# EAGLE library part POWERSTEP01 (library POWERSTEP01)
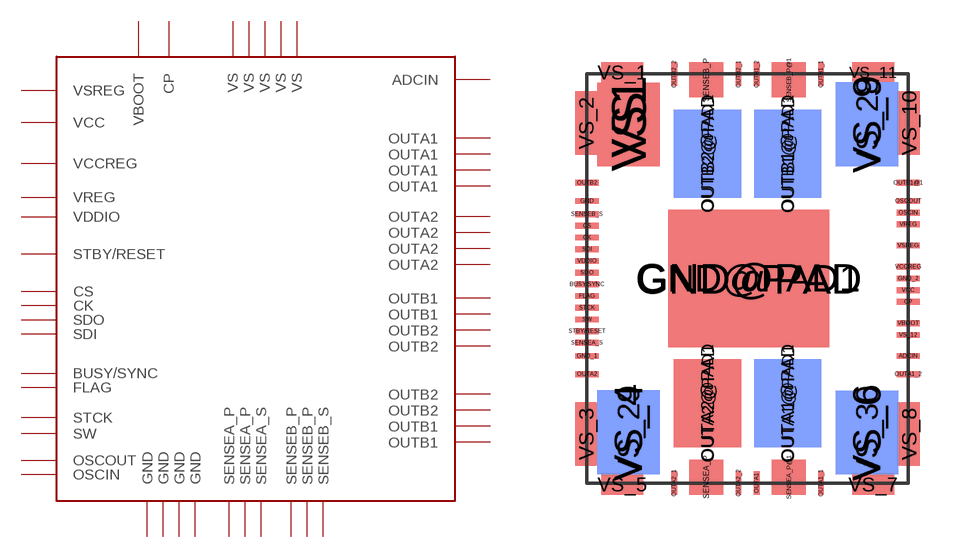
[diagram p0: symbol with the pads of POWERSTEP01; footprint POWERSTEP01]

Designator prefix -

## POWERSTEP01  [POWERSTEP01]
ADCIN  ADCIN
BUSY/SYNC  BUSY/SYNC
CK  CK
CP  CP
CS  CS
FLAG  FLAG
GND  GND
GND@PAD  GND
GND@PAD1  GND
GND_1  GND
GND_2  GND
OSCIN  OSCIN
OSCOUT  OSCOUT
OUTA1  OUTA1
OUTA1@PAD  OUTA1
OUTA1@PAD1  OUTA1
OUTA1_1  OUTA1
OUTA1_2  OUTA1
OUTA2  OUTA2
OUTA2@PAD  OUTA2
OUTA2@PAD1  OUTA2
OUTA2_1  OUTA2
OUTA2_2  OUTA2
OUTB1@1  OUTB1
OUTB1@PAD  OUTB1
OUTB1@PAD1  OUTB1
OUTB1_1  OUTB1
OUTB1_2  OUTB1
OUTB2  OUTB2
OUTB2@PAD  OUTB2
OUTB2@PAD1  OUTB2
OUTB2_1  OUTB2
OUTB2_2  OUTB2
SDI  SDI
SDO  SDO
SENSEA_P  SENSEA_P
SENSEA_P@1  SENSEA_P
SENSEA_S  SENSEA_S
SENSEB_P  SENSEB_P
SENSEB_P@1  SENSEB_P
SENSEB_S  SENSEB_S
STBY/RESET  STBY/RESET
STCK  STCK
SW  SW
VBOOT  VBOOT
VCC  VCC
VCCREG  VCCREG
VDDIO  VDDIO
VREG  VREG
VS  VS
VS1  VS
VS_1  VS
VS_2  VS
VS_3  VS
VS_4  VS
VS_5  VS
VS_6  VS
VS_7  VS
VS_8  VS
VS_9  VS
VS_10  VS
VS_11  VS
VS_12  VS
VS_28  VS
VS_29  VS
VS_30  VS
VSREG  VSREG

## Footprint POWERSTEP01 (pad centres in mm)
smd 0.8 x 0.2: ADCIN 5.49,-2.65; BUSY/SYNC -5.49,-0.2; CK -5.49,1.4; CP 5.49,-0.8; CS -5.49,1.8; FLAG -5.49,-0.6; GND -5.49,2.65; GND_1 -5.49,-2.65; GND_2 5.49,0; OSCIN 5.49,2.25; OSCOUT 5.49,2.65; OUTA1_2 5.49,-3.27; OUTA2 -5.49,-3.27; OUTB1@1 5.49,3.27; OUTB2 -5.49,3.27; SDI -5.49,1; SDO -5.49,0.2; SENSEA_S -5.49,-2.2; SENSEB_S -5.49,2.2; STBY/RESET -5.49,-1.8; STCK -5.49,-1; SW -5.49,-1.4; VBOOT 5.49,-1.53; VCC 5.49,-0.4; VCCREG 5.49,0.4; VDDIO -5.49,0.6; VREG 5.49,1.85; VS_12 5.49,-1.93; VSREG 5.49,1.13
smd 5.5 x 4.69 bottom: GND@PAD 0.038,0.002
smd 5.5 x 4.69: GND@PAD1 0.038,0.002
smd 0.2 x 0.8: OUTA1 0.31,-6.99; OUTA1_1 2.51,-6.99; OUTA2_1 -2.51,-6.99; OUTA2_2 -0.31,-6.99; OUTB1_1 2.51,6.99; OUTB1_2 0.31,6.99; OUTB2_1 -0.31,6.99; OUTB2_2 -2.51,6.99
smd 2.3 x 3.01: OUTA1@PAD 1.37,-4.27; OUTA2@PAD1 -1.37,-4.26; OUTB1@PAD 1.37,4.26; OUTB2@PAD -1.37,4.27
smd 2.3 x 3.01 bottom: OUTA1@PAD1 1.37,-4.27; OUTA2@PAD -1.37,-4.26; OUTB1@PAD1 1.37,4.26; OUTB2@PAD1 -1.37,4.27
smd 1.16 x 1.2: SENSEA_P -1.41,-6.79; SENSEA_P@1 1.41,-6.79; SENSEB_P -1.41,6.79; SENSEB_P@1 1.41,6.79
smd 2.14 x 2.87 bottom: VS -4.079,5.265; VS_28 4.083,5.268; VS_29 -4.075,-5.264; VS_30 4.078,-5.266
smd 2.14 x 2.87: VS1 -4.079,5.265; VS_4 -4.075,-5.264; VS_6 4.078,-5.266; VS_9 4.083,5.268
smd 1.44 x 0.69: VS_1 -4.29,7.045; VS_5 -4.29,-7.044; VS_7 4.289,-7.045; VS_11 4.29,7.045
smd 0.74 x 2.17: VS_2 -5.52,5.314; VS_3 -5.519,-5.314; VS_8 5.52,-5.316; VS_10 5.52,5.314